# EAGLE library part FSUSB42MUX_FSUSB42MUX (library Local Compute Module)
Low Power, Two port, High speed, USB 2.0(480Mbps) UART switch MSOP-10
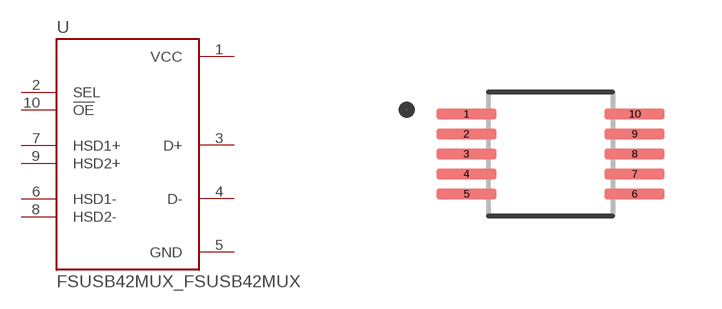
[diagram p16: symbol with the pads of FSUSB42MUX_SOP50P490X110-10N; footprint FSUSB42MUX_SOP50P490X110-10N]

Designator prefix U

## FSUSB42MUX_FSUSB42MUX (DIGIKEY: FSUSB42MUXCT-ND; MANUFACTURE: ON Semiconductor; MPN: FSUSB42MUX)  [FSUSB42MUX_SOP50P490X110-10N]
1  VCC
2  SEL
3  D+
4  D-
5  GND
6  HSD1-
7  HSD1+
8  HSD2-
9  HSD2+
10  !OE

## Footprint FSUSB42MUX_SOP50P490X110-10N (pad centres in mm)
smd 1.5 x 0.28: 1 -2.105,1; 2 -2.105,0.5; 3 -2.105,0; 4 -2.105,-0.5; 5 -2.105,-1; 6 2.105,-1; 7 2.105,-0.5; 8 2.105,0; 9 2.105,0.5; 10 2.105,1